# Altium footprint library XCVR_HC-SR04.PcbLib: 1 footprints
Each footprint in its own frame and in the unit in brackets; x right, y up, seen from the top. Pads: shape width x height; smd on the part's side, far side on the other; paste and mask are expansions set on the pad; w line width, h text height; cw(c..) or ccw(c..) is an arc to the next point about the centre after c.
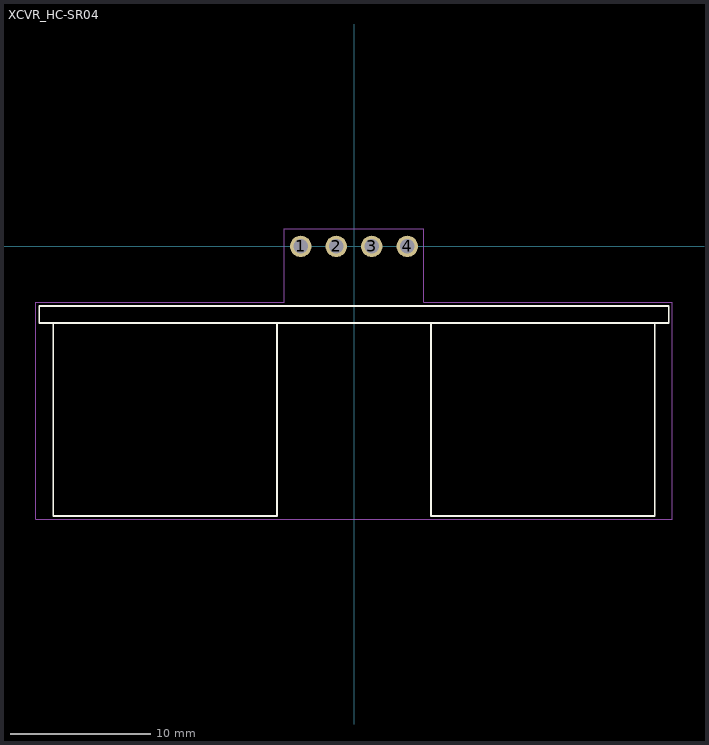
[diagram p0: the footprint, top view; thin cyan lines are the x and y axes]

## XCVR_HC-SR04 [mm]
pads (4):
  round 1.53 hole 1.02: 1(-3.81,0) 2(-1.27,0) 3(1.27,0) 4(3.81,0)
Top Overlay:
  lines w0.127: -21.5,-5.47 -21.5,-19.27 -5.5,-19.27 -5.5,-5.47 ; -21.5,-5.47 -22.5,-5.47 -22.5,-4.27 22.5,-4.27 22.5,-5.47 21.5,-5.47 ; -21.5,-5.47 -5.5,-5.47 ; -5.5,-5.47 5.5,-5.47 ; 5.5,-5.47 5.5,-19.27 21.5,-19.27 21.5,-5.47 ; 5.5,-5.47 21.5,-5.47
Mechanical 15:
  lines w0.05: -22.75,-19.5 22.75,-19.5 22.75,-4 5,-4 5,1.25 -5,1.25 -5,-4 -22.75,-4 -22.75,-19.5
3D body "HC-SR04--3DModel-STEP-1.STEP": height 20, standoff -7.53, extent -22.521,-17.399 22.479,0.401